# EAGLE library part TEENSY_35 (library Teensy35)
Teensy 3.5
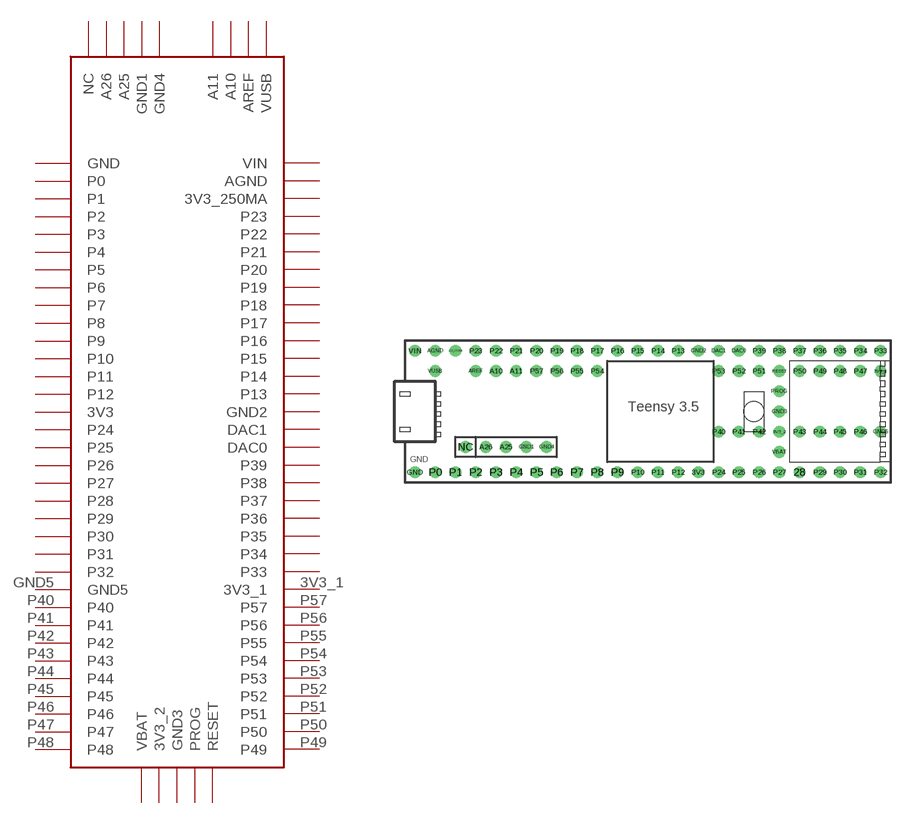
[diagram p0: symbol with the pads of TEENSY_35; footprint TEENSY_35]

Designator prefix -

## TEENSY_351  [TEENSY_35]
3V3  3V3
3V3_1  3V3_1
3V3_2  3V3_2
3V3_250MA  3V3_250MA
28  P28
A10  A10
A11  A11
A25  A25
A26  A26
AGND  AGND
AREF  AREF
DAC0  DAC0
DAC1  DAC1
GND  GND
GND1  GND1
GND2  GND2
GND3  GND3
GND4  GND4
GND5  GND5
NC  NC
P0  P0
P1  P1
P2  P2
P3  P3
P4  P4
P5  P5
P6  P6
P7  P7
P8  P8
P9  P9
P10  P10
P11  P11
P12  P12
P13  P13
P14  P14
P15  P15
P16  P16
P17  P17
P18  P18
P19  P19
P20  P20
P21  P21
P22  P22
P23  P23
P24  P24
P25  P25
P26  P26
P27  P27
P29  P29
P30  P30
P31  P31
P32  P32
P33  P33
P34  P34
P35  P35
P36  P36
P37  P37
P38  P38
P39  P39
P40  P40
P41  P41
P42  P42
P43  P43
P44  P44
P45  P45
P46  P46
P47  P47
P48  P48
P49  P49
P50  P50
P51  P51
P52  P52
P53  P53
P54  P54
P55  P55
P56  P56
P57  P57
PROG  PROG
RESET  RESET
VBAT  VBAT
VIN  VIN
VUSB  VUSB

## Footprint TEENSY_35 (pad centres in mm)
Teensy 3.5 Package including selected inner pin rows
drill 0.965: 3V3 7.62,-7.62; 3V3_1 30.48,5.08; 3V3_2 17.78,-2.54; 3V3_250MA -22.86,7.62; 28 20.32,-7.62; A10 -17.78,5.08; A11 -15.24,5.08; A25 -16.51,-4.445; A26 -19.05,-4.445; AGND -25.4,7.62; AREF -20.32,5.08; DAC0 12.7,7.62; DAC1 10.16,7.62; GND -27.94,-7.62; GND1 -13.97,-4.445; GND2 7.62,7.62; GND3 17.78,0; GND4 -11.43,-4.445; GND5 30.48,-2.54; NC -21.59,-4.445; P0 -25.4,-7.62; P1 -22.86,-7.62; P2 -20.32,-7.62; P3 -17.78,-7.62; P4 -15.24,-7.62; P5 -12.7,-7.62; P6 -10.16,-7.62; P7 -7.62,-7.62; P8 -5.08,-7.62; P9 -2.54,-7.62; P10 0,-7.62; P11 2.54,-7.62; P12 5.08,-7.62; P13 5.08,7.62; P14 2.54,7.62; P15 0,7.62; P16 -2.54,7.62; P17 -5.08,7.62; P18 -7.62,7.62; P19 -10.16,7.62; P20 -12.7,7.62; P21 -15.24,7.62; P22 -17.78,7.62; P23 -20.32,7.62; P24 10.16,-7.62; P25 12.7,-7.62; P26 15.24,-7.62; P27 17.78,-7.62; P29 22.86,-7.62; P30 25.4,-7.62; P31 27.94,-7.62; P32 30.48,-7.62; P33 30.48,7.62; P34 27.94,7.62; P35 25.4,7.62; P36 22.86,7.62; P37 20.32,7.62; P38 17.78,7.62; P39 15.24,7.62; P40 10.16,-2.54; P41 12.7,-2.54; P42 15.24,-2.54; P43 20.32,-2.54; P44 22.86,-2.54; P45 25.4,-2.54; P46 27.94,-2.54; P47 27.94,5.08; P48 25.4,5.08; P49 22.86,5.08; P50 20.32,5.08; P51 15.24,5.08; P52 12.7,5.08; P53 10.16,5.08; P54 -5.08,5.08; P55 -7.62,5.08; P56 -10.16,5.08; P57 -12.7,5.08; PROG 17.78,2.54; RESET 17.78,5.08; VBAT 17.78,-5.08; VIN -27.94,7.62; VUSB -25.4,5.08